# EAGLE library part LTC3622 (library Neel)
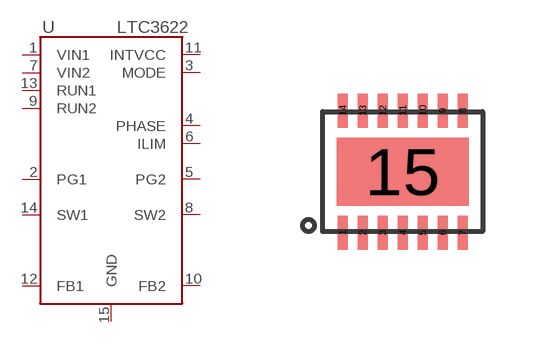
[diagram p80: symbol with the pads of DFN-14-EP; footprint DFN-14-EP]

Designator prefix -

## LTC3622DFN  [DFN-14-EP]
1  VIN1
2  PG1
3  MODE
4  PHASE
5  PG2
6  ILIM
7  VIN2
8  SW2
9  RUN2
10  FB2
11  INTVCC
12  FB1
13  RUN1
14  SW1
15  GND

## Footprint DFN-14-EP (pad centres in mm)
smd 0.25 x 0.85: 1 -1.5,-1.525; 2 -1,-1.525; 3 -0.5,-1.525; 4 0,-1.525; 5 0.5,-1.525; 6 1,-1.525; 7 1.5,-1.525; 8 1.5,1.525; 9 1,1.525; 10 0.5,1.525; 11 0,1.525; 12 -0.5,1.525; 13 -1,1.525; 14 -1.5,1.525
smd 3.3 x 1.7: 15 0,0